# Altium schematic symbol library EL-sense_Crystals.SchLib: 3 symbols
Pins are listed as number, name and electrical type; pins without a type are passive.

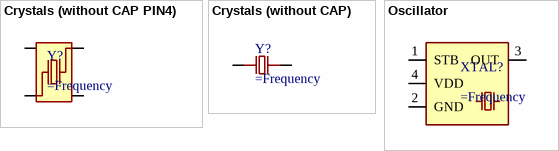
[diagram p0: symbols Crystals (without CAP PIN4) to Oscillator]

## Crystals (without CAP PIN4)
designator Y?
pins: 1, 2, 3, 4

## Crystals (without CAP)
designator Y?
pins: 1, 2

## Oscillator
designator XTAL?
pins: 1 STB, 2 GND, 3 OUT, 4 VDD